# EAGLE library part 66202221122 (library Wurth_Elektronik_Electromechanic_Wire_to_Board_Connectors_rev16a)
WR-MPC3 3.00mm Male Dual Row Vertical Header, 22 Pins=>Code : Con_WTB_MPC3_2_PCB_THT_66202221122 <http://katalog.we-online.de/media/thumbs2/eican/thb_Con_WTB_MPC3_2_PCB_THT_6620xx21122_pf2.jpg> Details see: http://katalog.we-online.de/en/em/662_0xx_211_22 Created 2014-06-06, Karrer Zheng 2014 (C) Würth Elektronik
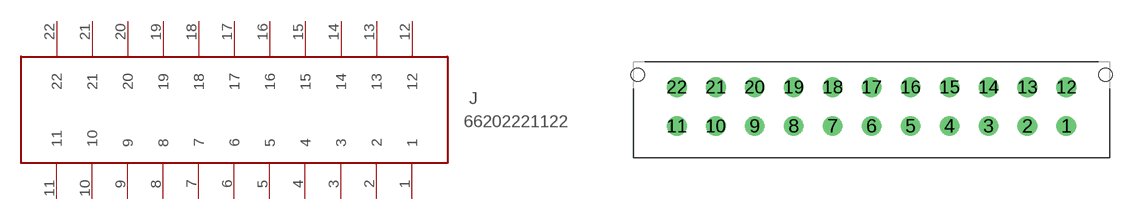
[diagram p396: symbol with the pads of 66202221122; footprint 66202221122]

Designator prefix J

## 66202221122  [66202221122]
1  1  pas
2  2  pas
3  3  pas
4  4  pas
5  5  sup
6  6  pas
7  7  pas
8  8  pas
9  9  pas
10  10  pas
11  11  pas
12  12  pas
13  13  pas
14  14  pas
15  15  pas
16  16  pas
17  17  pas
18  18  hiz
19  19  pas
20  20  pas
21  21  pas
22  22  pas

## Footprint 66202221122 (pad centres in mm)
WR-MPC3-3.00mm Male Dual Row Vertical Header,22 pins
drill 1.02: 1 15,-1.5; 2 12,-1.5; 3 9,-1.5; 4 6,-1.5; 5 3,-1.5; 6 0,-1.5; 7 -3,-1.5; 8 -6,-1.5; 9 -9,-1.5; 10 -12,-1.5; 11 -15,-1.5; 12 15,1.5; 13 12,1.5; 14 9,1.5; 15 6,1.5; 16 3,1.5; 17 0,1.5; 18 -3,1.5; 19 -6,1.5; 20 -9,1.5; 21 -12,1.5; 22 -15,1.5
hole 1.02 at -18,2.44
hole 1.02 at 18,2.44